# EAGLE library part IR-EMITTER-SFH4545_AND_DOUBLE-RECEIVER-TEFT4300_MICROMOUSE-MOUNT (library PiB_leds)
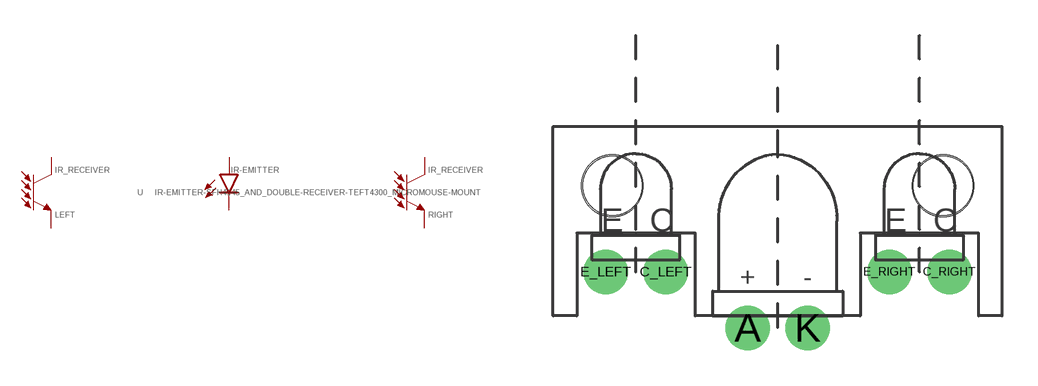
[diagram p2: symbol with the pads of IR-EMITTER-SFH4545_AND_DOUBLE-RECEIVER-TEFT4300_MICROMOUSE-MOUNT; footprint IR-EMITTER-SFH4545_AND_DOUBLE-RECEIVER-TEFT4300_MICROMOUSE-MOUNT]

Designator prefix -

## IR-EMITTER-SFH4545_AND_DOUBLE-RECEIVER-TEFT4300_MICROMOUSE-MOUNT  [IR-EMITTER-SFH4545_AND_DOUBLE-RECEIVER-TEFT4300_MICROMOUSE-MOUNT]
A  A  pas
C_LEFT  C_LEFT  pas
C_RIGHT  C_RIGHT  pas
E_LEFT  E_LEFT  pas
E_RIGHT  E_RIGHT  pas
K  K  pas

## Footprint IR-EMITTER-SFH4545_AND_DOUBLE-RECEIVER-TEFT4300_MICROMOUSE-MOUNT (pad centres in mm)
drill 0.813 pad 1.88: A -1.27,-4.51; C_LEFT -4.73,-2.14; C_RIGHT 7.27,-2.14; E_LEFT -7.27,-2.14; E_RIGHT 4.73,-2.14; K 1.27,-4.51
hole 2.6 at -7,1.5
hole 2.6 at 7,1.5